# Altium schematic symbol library 74xxChips.SchLib: 22 symbols
Pins are listed as number, name and electrical type; pins without a type are passive.

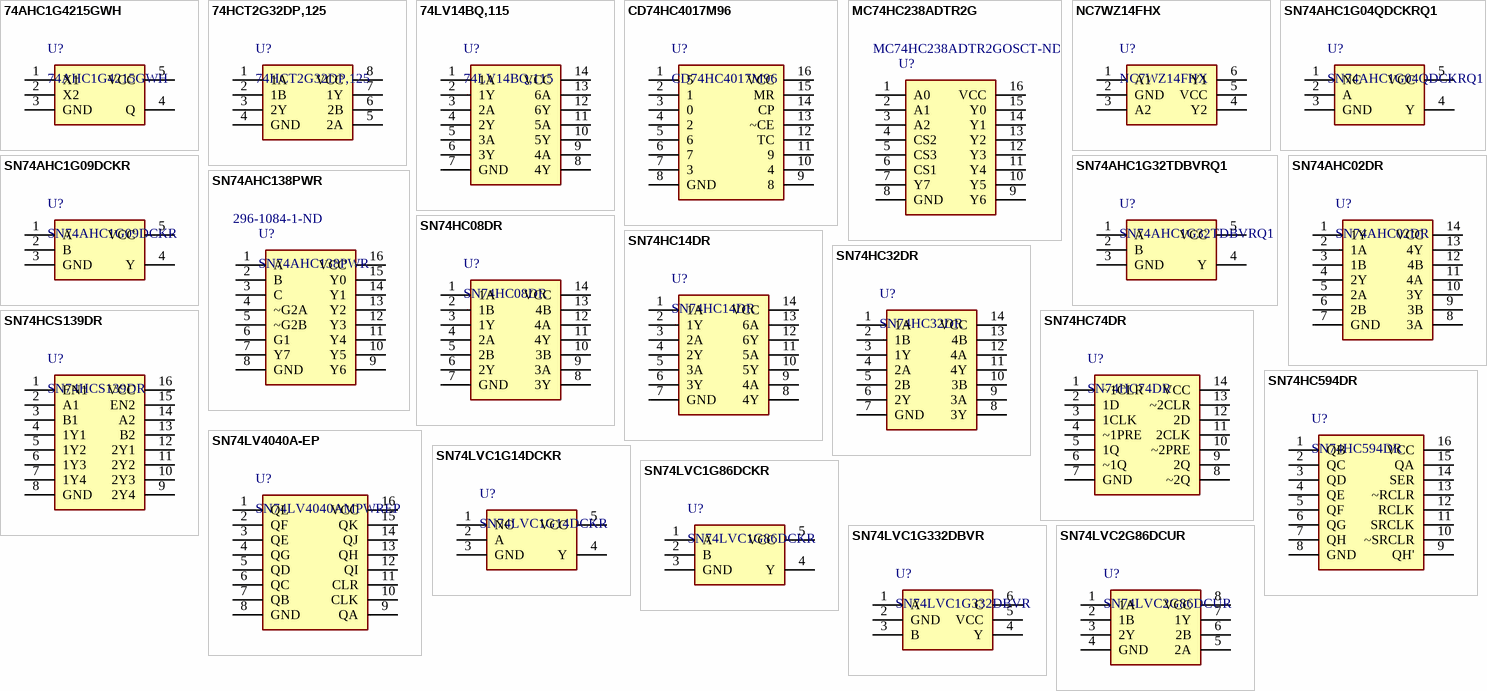
[diagram p0: symbols 74AHC1G4215GWH to SN74LVC2G86DCUR]

## 74AHC1G4215GWH
designator U?
15-STAGE DIVIDER AND OSCILLATOR; Supplier 1: Digi-Key; Supplier Part Number 1: 1727-8633-1-ND
footprint SC-70-5
pins: 1 X1, 2 X2, 3 GND, 4 Q, 5 VCC

## 74HCT2G32DP,125
designator U?
IC GATE OR 2CH 2-INP 8TSSOP; Supplier 1: Digi-Key; Supplier Part Number 1: 1727-6630-1-ND
footprint TSSOP-8
pins: 1 1A, 2 1B, 3 2Y, 4 GND, 5 2A, 6 2B, 7 1Y, 8 VCC

## 74LV14BQ,115
designator U?
IC INVERTER 6CH 6-INP 14DHVQFN; Supplier 1: Digi-Key; Supplier Part Number 1: 1727-6943-1-ND
footprint DHVQFN-14
pins: 1 1A, 2 1Y, 3 2A, 4 2Y, 5 3A, 6 3Y, 7 GND, 8 4Y, 9 4A, 10 5Y, 11 5A, 12 6Y, 13 6A, 14 VCC

## CD74HC4017M96
designator U?
IC DECADE COUNTER/DIVIDER 16SOIC; Supplier 1: Digi-Key; Supplier Part Number 1: 296-12808-1-ND
footprint SOIC-16_N
pins: 1 5, 2 1, 3 0, 4 2, 5 6, 6 7, 7 3, 8 GND, 9 8, 10 4, 11 9, 12 TC, 13 ~CE, 14 CP, 15 MR, 16 VCC

## MC74HC238ADTR2G
designator U?  Supplier Part Number 1: MC74HC238ADTR2GOSCT-ND  (hidden comment: MC74HC238ADTR2G)
IC DECODER/DEMUX HS 1-8 16TSSOP; Supplier 1: Digi-Key
footprint TSSOP-16
pins: 1 A0, 2 A1, 3 A2, 4 CS2, 5 CS3, 6 CS1, 7 Y7, 8 GND, 9 Y6, 10 Y5, 11 Y4, 12 Y3, 13 Y2, 14 Y1, 15 Y0, 16 VCC

## NC7WZ14FHX
designator U?
IC INVERTER 2CH 2-INP 6MICROPAK2; Supplier 1: Digi-Key; Supplier Part Number 1: NC7WZ14FHXCT-ND
footprint MICROPAK2
pins: 1 A1, 2 GND, 3 A2, 4 Y2, 5 VCC, 6 Y1

## SN74AHC1G04QDCKRQ1
designator U?
IC INVERTER 1CH 1-INP SC70-5 AEC-Q100; Supplier 1: Digi-Key; Supplier Part Number 1: 296-17248-1-ND
footprint SC-70-5
pins: 1 NC, 2 A, 3 GND, 4 Y, 5 VCC

## SN74AHC1G09DCKR
designator U?
IC GATE AND 1CH 2-INP SC70-5; Supplier 1: Digi-Key; Supplier Part Number 1: 296-29203-1-ND
footprint SC-70-5
pins: 1 A, 2 B, 3 GND, 4 Y, 5 VCC

## SN74AHC1G32TDBVRQ1
designator U?
IC GATE OR 1CH 2-INP SOT23-5; Supplier 1: Digi-Key; Supplier Part Number 1: 296-17421-1-ND
footprint SOT-23-5-N
pins: 1 A, 2 B, 3 GND, 4 Y, 5 VCC

## SN74AHC02DR
designator U?
IC GATE NOR 4CH 2-INP 14SOIC; Supplier 1: Digi-Key; Supplier Part Number 1: 296-4511-1-ND
footprint SOIC-14_N
pins: 1 1Y, 2 1A, 3 1B, 4 2Y, 5 2A, 6 2B, 7 GND, 8 3A, 9 3B, 10 3Y, 11 4A, 12 4B, 13 4Y, 14 VCC

## SN74AHC138PWR
designator U?  Supplier Part Number 1: 296-1084-1-ND
IC 3-8 LINE DECODR/DEMUX 16TSSOP; Supplier 1: Digi-Key
footprint TSSOP-16
pins: 1 A, 2 B, 3 C, 4 ~G2A, 5 ~G2B, 6 G1, 7 Y7, 8 GND, 9 Y6, 10 Y5, 11 Y4, 12 Y3, 13 Y2, 14 Y1, 15 Y0, 16 VCC

## SN74HC08DR
designator U?
IC GATE AND 4CH 2-INP 14SOIC; Supplier 1: Digi-Key; Supplier Part Number 1: 296-1191-1-ND
footprint SOIC-14_N
pins: 1 1A, 2 1B, 3 1Y, 4 2A, 5 2B, 6 2Y, 7 GND, 8 3Y, 9 3A, 10 3B, 11 4Y, 12 4A, 13 4B, 14 VCC

## SN74HC14DR
designator U?
IC INVERTER SCHMITT 6CH 14SOIC; Supplier 1: Digi-Key; Supplier Part Number 1: 296-1194-1-ND
footprint SOIC-14_N
pins: 1 1A, 2 1Y, 3 2A, 4 2Y, 5 3A, 6 3Y, 7 GND, 8 4Y, 9 4A, 10 5Y, 11 5A, 12 6Y, 13 6A, 14 VCC

## SN74HC32DR
designator U?
IC GATE OR 4CH 2-INP 14SOIC; Supplier 1: Digi-Key; Supplier Part Number 1: 296-1199-1-ND
footprint SOIC-14_N
pins: 1 1A, 2 1B, 3 1Y, 4 2A, 5 2B, 6 2Y, 7 GND, 8 3Y, 9 3A, 10 3B, 11 4Y, 12 4A, 13 4B, 14 VCC

## SN74HC74DR
designator U?
IC FF D-TYPE DUAL 1BIT 14SOIC; Supplier 1: Digi-Key; Supplier Part Number 1: 296-1204-1-ND
footprint SOIC-14_N
pins: 1 ~1CLR, 2 1D, 3 1CLK, 4 ~1PRE, 5 1Q, 6 ~1Q, 7 GND, 8 ~2Q, 9 2Q, 10 ~2PRE, 11 2CLK, 12 2D, 13 ~2CLR, 14 VCC

## SN74HC594DR
designator U?
IC SHIFT REGISTER 8BIT 16-SOIC; Supplier 1: Digi-Key; Supplier Part Number 1: 296-31819-1-ND
footprint SOIC-16_N
pins: 1 QB, 2 QC, 3 QD, 4 QE, 5 QF, 6 QG, 7 QH, 8 GND, 9 QH', 10 ~SRCLR, 11 SRCLK, 12 RCLK, 13 ~RCLR, 14 SER, 15 QA, 16 VCC

## SN74HCS139DR
designator U?
DUAL 2-LINE TO 4-LINE DECODERS/D; Supplier 1: Digi-Key; Supplier Part Number 1: 296-SN74HCS139DRCT-ND
footprint SOIC-16_N
pins: 1 EN1, 2 A1, 3 B1, 4 1Y1, 5 1Y2, 6 1Y3, 7 1Y4, 8 GND, 9 2Y4, 10 2Y3, 11 2Y2, 12 2Y1, 13 B2, 14 A2, 15 EN2, 16 VCC

## SN74LV4040A-EP
designator U?, comment SN74LV4040AMPWREP
IC 12BIT ASYNC BIN COUNT 16TSSOP; Supplier 1: Digi-Key; Supplier Part Number 1: 296-23470-1-ND
footprint TSSOP-16
pins: 1 QL, 2 QF, 3 QE, 4 QG, 5 QD, 6 QC, 7 QB, 8 GND, 9 QA, 10 CLK, 11 CLR, 12 QI, 13 QH, 14 QJ, 15 QK, 16 VCC

## SN74LVC1G14DCKR
designator U?
IC INVERTER SCHMITT 1CH SC70-5; Supplier 1: Digi-Key; Supplier Part Number 1: 296-11608-1-ND
footprint SC-70-5
pins: 1 NC, 2 A, 3 GND, 4 Y, 5 VCC

## SN74LVC1G86DCKR
designator U?
IC GATE XOR 1CH 2-INP SC70-5; Supplier 1: Digi-Key; Supplier Part Number 1: 296-9854-1-ND
footprint SC-70-5
pins: 1 A, 2 B, 3 GND, 4 Y, 5 VCC

## SN74LVC1G332DBVR
designator U?
IC GATE OR 1CH 3-INP SOT23-6; Supplier 1: Digi-Key; Supplier Part Number 1: 296-18587-1-ND
footprint SOT-23-6-N
pins: 1 A, 2 GND, 3 B, 4 Y, 5 VCC, 6 C

## SN74LVC2G86DCUR
designator U?
IC GATE XOR 2CH 2-INP US8; Supplier 1: Digi-Key; Supplier Part Number 1: 296-13275-1-ND
footprint VSSOP-8_N
pins: 1 1A, 2 1B, 3 2Y, 4 GND, 5 2A, 6 2B, 7 1Y, 8 VCC